# EAGLE library part TPS732XX (library laforge)
TI TPS732xx Cao-free NMOS 250mA LDO
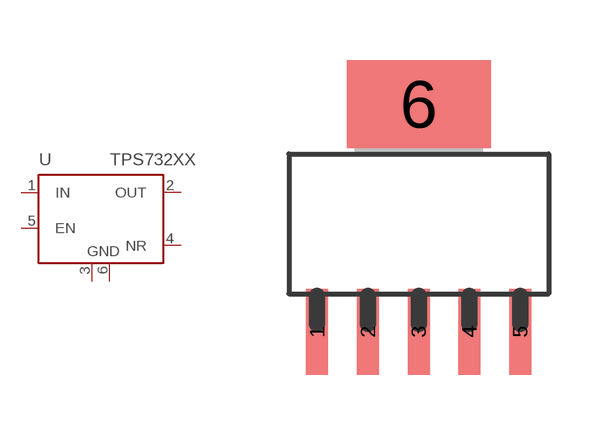
[diagram p12: symbol with the pads of SOT223-6; footprint SOT223-6]

Designator prefix -

## TPS732XX  [SOT223-6]
1  IN  in
2  OUT  pas
3  GND  pwr
4  NR  pas
5  EN  in
6  GND1  pwr

## Footprint SOT223-6 (pad centres in mm)
SOT223-6 ass found in TPS736xx data sheet
smd 0.55 x 2.15: 1 -2.54,-2.7; 2 -1.27,-2.7; 3 0,-2.7; 4 1.27,-2.7; 5 2.54,-2.7
smd 3.6 x 2.2: 6 0,3